# Altium schematic symbol library IND 8.2UH 4.6A 15MOHM.Schlib: 1 symbol
Pins are listed as number, name and electrical type; pins without a type are passive.

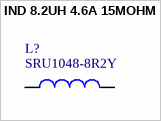
[diagram p0: symbol IND 8.2UH 4.6A 15MOHM]

## IND 8.2UH 4.6A 15MOHM
designator L?, comment SRU1048-8R2Y
8.2µH Shielded Wirewound Inductor 4.6A 15mOhm Nonstandard; MF: Bourns Inc.; Value: 8.2uH; MP: SRU1048-8R2Y; Price: None; Package: Nonstandard; ComponentLink1Description: digikey; ComponentLink1URL: https://www.digikey.ca/en/products/detail/bourns-inc/SRU1048-8R2Y/2352912; Digikey: SRU1048-8R2YCT-ND; Digikey Link: https://www.digikey.ca/en/products/detail/bourns-inc/SRU1048-8R2Y/2352912
footprint SRU1048-8R2Y
pins: 1, 2